# Altium schematic symbol library kmilo17pet-TI_StepDown.SchLib: 565 symbols (part 13 of 33)
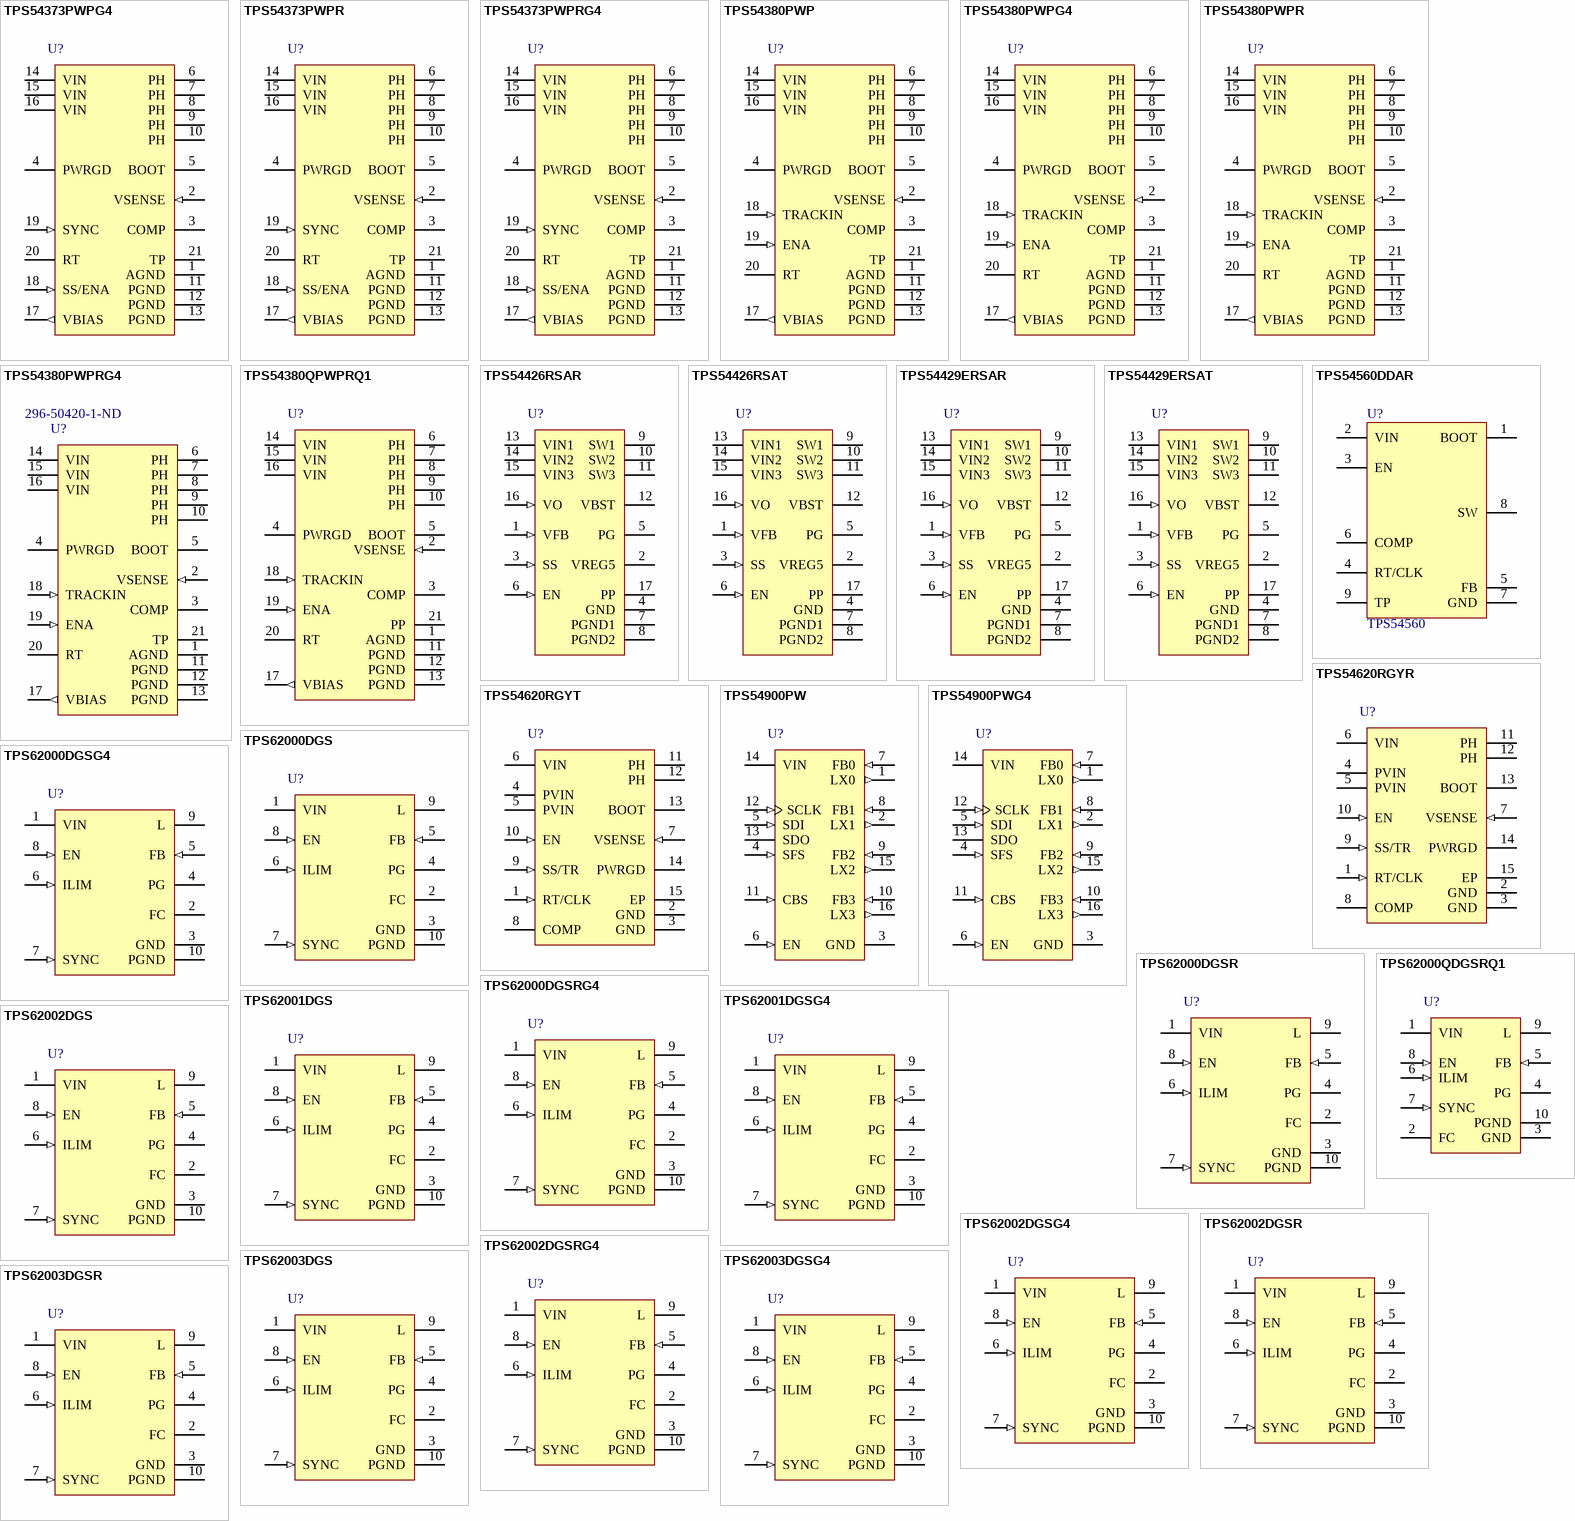
[diagram p31: symbols TPS54373PWPG4 to TPS62003DGSR]

## TPS62003DGSG4
designator U?
Buck Step-Down Regulator with 2 V to 5.5 V Input and 1.2 V Output, -40 to 85 degC, 10-Pin MSOP (DGS), Green (RoHS & no Sb/Br); Manufacturer: Texas Instruments; PartNumber: TPS62003DGSG4; Duty Cycle(Max)(%): 100; Iout(Max)(A): 0.6; Iq(Typ)(mA): 0.05; Preset Vout(V): 1.2; Rating: Catalog; Regulated Outputs(#): 1; Switch Current Limit(Typ)(A): 1.6; Synchronous Rectification: TRUE; Vin(Max)(V): 5.5; Vin(Min)(V): 2; DatasheetVersion: SLVS294E; PackageVersion: revC, Feb-2004; PackageReference: DGS10; PackageDescription: 10-Pin Thin Shrink Small Outline Package 0.5 mm Pitch; Supplier 1: Digi-Key; Supplier Part Number 1: TPS62003DGSG4-ND; Eco-Plan: Green (RoHS & no Sb/Br); SubFamily: Step-Down Regulator; Topology: Buck; Vout(Max)(V): 1.2; Vout(Min)(V): 1.2; Mounting Technology: Surface Mount; Code_JEDEC: MO-187-BA; ComponentLink1Description: Datasheet; ComponentLink1URL: http://www.ti.com/general/docs/lit/getliterature.tsp?genericPartNumber=TPS62003&fileType=pdf; ComponentLink2Description: Package Specification; ComponentLink2URL: http://www.ti.com/litv/pdf/mpds373
footprint DGS10_N (TSSOP, 10-Leads, Body 3x3mm, Pitch 0.5mm, IPC Medium Density)
footprint DGS10_L (TSSOP, 10-Leads, Body 3x3mm, Pitch 0.5mm, IPC High Density)
footprint DGS10_M (TSSOP, 10-Leads, Body 3x3mm, Pitch 0.5mm, IPC Low Density)
pins: 1 VIN (power) "Supply voltage input", 2 FC "Supply bypass pin. A 0.1 µF coupling capacitor should be connected as close as possible to this pin for good high frequency input voltage supply filtering.", 3 GND (power) "Ground", 4 PG (hiz) "Power good comparator output. This is an open-drain output. A pullup resistor should be connected between PG and VO. The output goes active high when the output voltage is greater than 92% of the nominal value.", 5 FB (in) "Feedback pin for the fixed output voltage option. For the adjustable version an external resistive divider is connected to FB. The internal voltage divider is disabled for the adjustable version.", 6 ILIM (in) "Switch current limit. Connect ILIM to GND to set the switch current limit to typically 600 mA, or connect this pin to VIN to set the current limit to typically 1200 mA.", 7 SYNC (in) "Input for synchronization to external clock signal. Synchronizes the converter switching frequency to an external clock signal with CMOS level:SYNC = HIGH: Low-noise mode enabled, fixed frequency PWM operation is forced SYNC (See Datasheet)", 8 EN (in) "Enable. A logic high enables the converter, logic low forces the device into shutdown mode reducing the supply current to less than 1 uA.", 9 L (power) "Connect the inductor to this pin. L is the switch pin connected to the drain of the internal power MOSFETS", 10 PGND (power) "Power ground. Connect all power grounds to PGND."

## TPS62003DGSR
designator U?
Buck Step-Down Regulator with 2 V to 5.5 V Input and 1.2 V Output, -40 to 85 degC, 10-Pin MSOP (DGS), Green (RoHS & no Sb/Br); Manufacturer: Texas Instruments; PartNumber: TPS62003DGSR; Duty Cycle(Max)(%): 100; Iout(Max)(A): 0.6; Iq(Typ)(mA): 0.05; Preset Vout(V): 1.2; Rating: Catalog; Regulated Outputs(#): 1; Switch Current Limit(Typ)(A): 1.6; Synchronous Rectification: TRUE; Vin(Max)(V): 5.5; Vin(Min)(V): 2; DatasheetVersion: SLVS294E; PackageVersion: revC, Feb-2004; PackageReference: DGS10; PackageDescription: 10-Pin Thin Shrink Small Outline Package 0.5 mm Pitch; Supplier 1: Digi-Key; Supplier Part Number 1: 296-11614-2-ND; Eco-Plan: Green (RoHS & no Sb/Br); SubFamily: Step-Down Regulator; Topology: Buck; Vout(Max)(V): 1.2; Vout(Min)(V): 1.2; Mounting Technology: Surface Mount; Code_JEDEC: MO-187-BA; ComponentLink1Description: Datasheet; ComponentLink1URL: http://www.ti.com/general/docs/lit/getliterature.tsp?genericPartNumber=TPS62003&fileType=pdf; ComponentLink2Description: Package Specification; ComponentLink2URL: http://www.ti.com/litv/pdf/mpds373
footprint DGS10_N (TSSOP, 10-Leads, Body 3x3mm, Pitch 0.5mm, IPC Medium Density)
footprint DGS10_L (TSSOP, 10-Leads, Body 3x3mm, Pitch 0.5mm, IPC High Density)
footprint DGS10_M (TSSOP, 10-Leads, Body 3x3mm, Pitch 0.5mm, IPC Low Density)
pins: 1 VIN (power) "Supply voltage input", 2 FC "Supply bypass pin. A 0.1 µF coupling capacitor should be connected as close as possible to this pin for good high frequency input voltage supply filtering.", 3 GND (power) "Ground", 4 PG (hiz) "Power good comparator output. This is an open-drain output. A pullup resistor should be connected between PG and VO. The output goes active high when the output voltage is greater than 92% of the nominal value.", 5 FB (in) "Feedback pin for the fixed output voltage option. For the adjustable version an external resistive divider is connected to FB. The internal voltage divider is disabled for the adjustable version.", 6 ILIM (in) "Switch current limit. Connect ILIM to GND to set the switch current limit to typically 600 mA, or connect this pin to VIN to set the current limit to typically 1200 mA.", 7 SYNC (in) "Input for synchronization to external clock signal. Synchronizes the converter switching frequency to an external clock signal with CMOS level:SYNC = HIGH: Low-noise mode enabled, fixed frequency PWM operation is forced SYNC (See Datasheet)", 8 EN (in) "Enable. A logic high enables the converter, logic low forces the device into shutdown mode reducing the supply current to less than 1 uA.", 9 L (power) "Connect the inductor to this pin. L is the switch pin connected to the drain of the internal power MOSFETS", 10 PGND (power) "Power ground. Connect all power grounds to PGND."

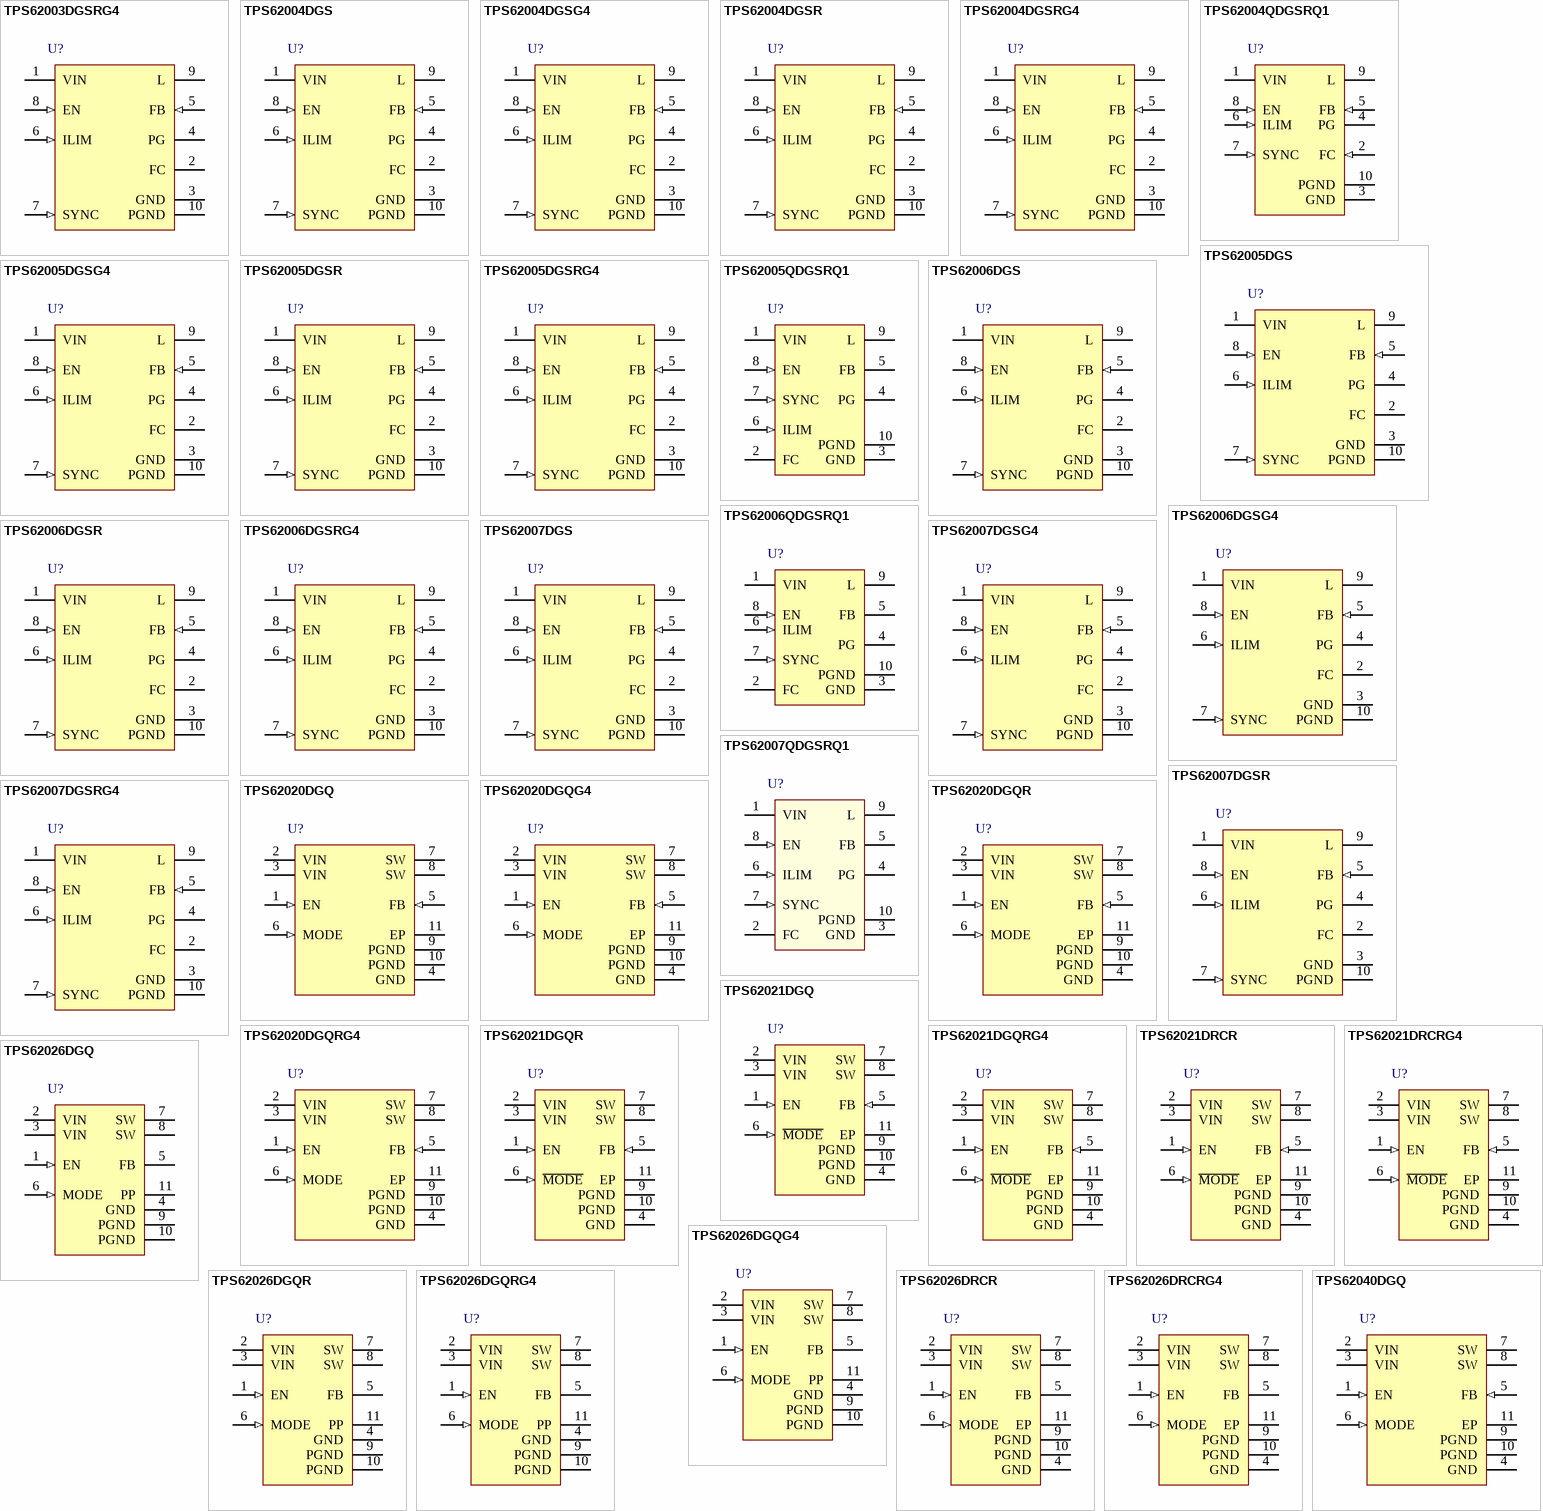
[diagram p7: symbols TPS62003DGSRG4 to TPS62040DGQ]

## TPS62003DGSRG4
designator U?
Buck Step-Down Regulator with 2 V to 5.5 V Input and 1.2 V Output, -40 to 85 degC, 10-Pin MSOP (DGS), Green (RoHS & no Sb/Br); Manufacturer: Texas Instruments; PartNumber: TPS62003DGSRG4; Duty Cycle(Max)(%): 100; Iout(Max)(A): 0.6; Iq(Typ)(mA): 0.05; Preset Vout(V): 1.2; Rating: Catalog; Regulated Outputs(#): 1; Switch Current Limit(Typ)(A): 1.6; Synchronous Rectification: TRUE; Vin(Max)(V): 5.5; Vin(Min)(V): 2; DatasheetVersion: SLVS294E; PackageVersion: revC, Feb-2004; PackageReference: DGS10; PackageDescription: 10-Pin Thin Shrink Small Outline Package 0.5 mm Pitch; Supplier 1: Digi-Key; Supplier Part Number 1: TPS62003DGSRG4-ND; Eco-Plan: Green (RoHS & no Sb/Br); SubFamily: Step-Down Regulator; Topology: Buck; Vout(Max)(V): 1.2; Vout(Min)(V): 1.2; Mounting Technology: Surface Mount; Code_JEDEC: MO-187-BA; ComponentLink1Description: Datasheet; ComponentLink1URL: http://www.ti.com/general/docs/lit/getliterature.tsp?genericPartNumber=TPS62003&fileType=pdf; ComponentLink2Description: Package Specification; ComponentLink2URL: http://www.ti.com/litv/pdf/mpds373
footprint DGS10_N (TSSOP, 10-Leads, Body 3x3mm, Pitch 0.5mm, IPC Medium Density)
footprint DGS10_L (TSSOP, 10-Leads, Body 3x3mm, Pitch 0.5mm, IPC High Density)
footprint DGS10_M (TSSOP, 10-Leads, Body 3x3mm, Pitch 0.5mm, IPC Low Density)
pins: 1 VIN (power) "Supply voltage input", 2 FC "Supply bypass pin. A 0.1 µF coupling capacitor should be connected as close as possible to this pin for good high frequency input voltage supply filtering.", 3 GND (power) "Ground", 4 PG (hiz) "Power good comparator output. This is an open-drain output. A pullup resistor should be connected between PG and VO. The output goes active high when the output voltage is greater than 92% of the nominal value.", 5 FB (in) "Feedback pin for the fixed output voltage option. For the adjustable version an external resistive divider is connected to FB. The internal voltage divider is disabled for the adjustable version.", 6 ILIM (in) "Switch current limit. Connect ILIM to GND to set the switch current limit to typically 600 mA, or connect this pin to VIN to set the current limit to typically 1200 mA.", 7 SYNC (in) "Input for synchronization to external clock signal. Synchronizes the converter switching frequency to an external clock signal with CMOS level:SYNC = HIGH: Low-noise mode enabled, fixed frequency PWM operation is forced SYNC (See Datasheet)", 8 EN (in) "Enable. A logic high enables the converter, logic low forces the device into shutdown mode reducing the supply current to less than 1 uA.", 9 L (power) "Connect the inductor to this pin. L is the switch pin connected to the drain of the internal power MOSFETS", 10 PGND (power) "Power ground. Connect all power grounds to PGND."

## TPS62004DGS
designator U?
Buck Step-Down Regulator with 2 V to 5.5 V Input and 1.5 V Output, -40 to 85 degC, 10-Pin MSOP (DGS), Green (RoHS & no Sb/Br); Manufacturer: Texas Instruments; PartNumber: TPS62004DGS; Duty Cycle(Max)(%): 100; Iout(Max)(A): 0.6; Iq(Typ)(mA): 0.05; Preset Vout(V): 1.5; Rating: Catalog; Regulated Outputs(#): 1; Switch Current Limit(Typ)(A): 1.6; Synchronous Rectification: TRUE; Vin(Max)(V): 5.5; Vin(Min)(V): 2; DatasheetVersion: SLVS294E; PackageVersion: revC, Feb-2004; PackageReference: DGS10; PackageDescription: 10-Pin Thin Shrink Small Outline Package 0.5 mm Pitch; Supplier 1: Digi-Key; Supplier Part Number 1: 296-34631-5-ND; Eco-Plan: Green (RoHS & no Sb/Br); SubFamily: Step-Down Regulator; Topology: Buck; Vout(Max)(V): 1.5; Vout(Min)(V): 1.5; Mounting Technology: Surface Mount; Code_JEDEC: MO-187-BA; ComponentLink1Description: Datasheet; ComponentLink1URL: http://www.ti.com/general/docs/lit/getliterature.tsp?genericPartNumber=TPS62004&fileType=pdf; ComponentLink2Description: Package Specification; ComponentLink2URL: http://www.ti.com/litv/pdf/mpds373
footprint DGS10_N (TSSOP, 10-Leads, Body 3x3mm, Pitch 0.5mm, IPC Medium Density)
footprint DGS10_L (TSSOP, 10-Leads, Body 3x3mm, Pitch 0.5mm, IPC High Density)
footprint DGS10_M (TSSOP, 10-Leads, Body 3x3mm, Pitch 0.5mm, IPC Low Density)
pins: 1 VIN (power) "Supply voltage input", 2 FC "Supply bypass pin. A 0.1 µF coupling capacitor should be connected as close as possible to this pin for good high frequency input voltage supply filtering.", 3 GND (power) "Ground", 4 PG (hiz) "Power good comparator output. This is an open-drain output. A pullup resistor should be connected between PG and VO. The output goes active high when the output voltage is greater than 92% of the nominal value.", 5 FB (in) "Feedback pin for the fixed output voltage option. For the adjustable version an external resistive divider is connected to FB. The internal voltage divider is disabled for the adjustable version.", 6 ILIM (in) "Switch current limit. Connect ILIM to GND to set the switch current limit to typically 600 mA, or connect this pin to VIN to set the current limit to typically 1200 mA.", 7 SYNC (in) "Input for synchronization to external clock signal. Synchronizes the converter switching frequency to an external clock signal with CMOS level:SYNC = HIGH: Low-noise mode enabled, fixed frequency PWM operation is forced SYNC (See Datasheet)", 8 EN (in) "Enable. A logic high enables the converter, logic low forces the device into shutdown mode reducing the supply current to less than 1 uA.", 9 L (power) "Connect the inductor to this pin. L is the switch pin connected to the drain of the internal power MOSFETS", 10 PGND (power) "Power ground. Connect all power grounds to PGND."

## TPS62004DGSG4
designator U?
Buck Step-Down Regulator with 2 V to 5.5 V Input and 1.5 V Output, -40 to 85 degC, 10-Pin MSOP (DGS), Green (RoHS & no Sb/Br); Manufacturer: Texas Instruments; PartNumber: TPS62004DGSG4; Duty Cycle(Max)(%): 100; Iout(Max)(A): 0.6; Iq(Typ)(mA): 0.05; Preset Vout(V): 1.5; Rating: Catalog; Regulated Outputs(#): 1; Switch Current Limit(Typ)(A): 1.6; Synchronous Rectification: TRUE; Vin(Max)(V): 5.5; Vin(Min)(V): 2; DatasheetVersion: SLVS294E; PackageVersion: revC, Feb-2004; PackageReference: DGS10; PackageDescription: 10-Pin Thin Shrink Small Outline Package 0.5 mm Pitch; Supplier 1: Digi-Key; Supplier Part Number 1: TPS62004DGSG4-ND; Eco-Plan: Green (RoHS & no Sb/Br); SubFamily: Step-Down Regulator; Topology: Buck; Vout(Max)(V): 1.5; Vout(Min)(V): 1.5; Mounting Technology: Surface Mount; Code_JEDEC: MO-187-BA; ComponentLink1Description: Datasheet; ComponentLink1URL: http://www.ti.com/general/docs/lit/getliterature.tsp?genericPartNumber=TPS62004&fileType=pdf; ComponentLink2Description: Package Specification; ComponentLink2URL: http://www.ti.com/litv/pdf/mpds373
footprint DGS10_N (TSSOP, 10-Leads, Body 3x3mm, Pitch 0.5mm, IPC Medium Density)
footprint DGS10_L (TSSOP, 10-Leads, Body 3x3mm, Pitch 0.5mm, IPC High Density)
footprint DGS10_M (TSSOP, 10-Leads, Body 3x3mm, Pitch 0.5mm, IPC Low Density)
pins: 1 VIN (power) "Supply voltage input", 2 FC "Supply bypass pin. A 0.1 µF coupling capacitor should be connected as close as possible to this pin for good high frequency input voltage supply filtering.", 3 GND (power) "Ground", 4 PG (hiz) "Power good comparator output. This is an open-drain output. A pullup resistor should be connected between PG and VO. The output goes active high when the output voltage is greater than 92% of the nominal value.", 5 FB (in) "Feedback pin for the fixed output voltage option. For the adjustable version an external resistive divider is connected to FB. The internal voltage divider is disabled for the adjustable version.", 6 ILIM (in) "Switch current limit. Connect ILIM to GND to set the switch current limit to typically 600 mA, or connect this pin to VIN to set the current limit to typically 1200 mA.", 7 SYNC (in) "Input for synchronization to external clock signal. Synchronizes the converter switching frequency to an external clock signal with CMOS level:SYNC = HIGH: Low-noise mode enabled, fixed frequency PWM operation is forced SYNC (See Datasheet)", 8 EN (in) "Enable. A logic high enables the converter, logic low forces the device into shutdown mode reducing the supply current to less than 1 uA.", 9 L (power) "Connect the inductor to this pin. L is the switch pin connected to the drain of the internal power MOSFETS", 10 PGND (power) "Power ground. Connect all power grounds to PGND."

## TPS62004DGSR
designator U?
Buck Step-Down Regulator with 2 V to 5.5 V Input and 1.5 V Output, -40 to 85 degC, 10-Pin MSOP (DGS), Green (RoHS & no Sb/Br); Manufacturer: Texas Instruments; PartNumber: TPS62004DGSR; Duty Cycle(Max)(%): 100; Iout(Max)(A): 0.6; Iq(Typ)(mA): 0.05; Preset Vout(V): 1.5; Rating: Catalog; Regulated Outputs(#): 1; Switch Current Limit(Typ)(A): 1.6; Synchronous Rectification: TRUE; Vin(Max)(V): 5.5; Vin(Min)(V): 2; DatasheetVersion: SLVS294E; PackageVersion: revC, Feb-2004; PackageReference: DGS10; PackageDescription: 10-Pin Thin Shrink Small Outline Package 0.5 mm Pitch; Supplier 1: Digi-Key; Supplier Part Number 1: 296-11615-2-ND; Eco-Plan: Green (RoHS & no Sb/Br); SubFamily: Step-Down Regulator; Topology: Buck; Vout(Max)(V): 1.5; Vout(Min)(V): 1.5; Mounting Technology: Surface Mount; Code_JEDEC: MO-187-BA; ComponentLink1Description: Datasheet; ComponentLink1URL: http://www.ti.com/general/docs/lit/getliterature.tsp?genericPartNumber=TPS62004&fileType=pdf; ComponentLink2Description: Package Specification; ComponentLink2URL: http://www.ti.com/litv/pdf/mpds373
footprint DGS10_N (TSSOP, 10-Leads, Body 3x3mm, Pitch 0.5mm, IPC Medium Density)
footprint DGS10_L (TSSOP, 10-Leads, Body 3x3mm, Pitch 0.5mm, IPC High Density)
footprint DGS10_M (TSSOP, 10-Leads, Body 3x3mm, Pitch 0.5mm, IPC Low Density)
pins: 1 VIN (power) "Supply voltage input", 2 FC "Supply bypass pin. A 0.1 µF coupling capacitor should be connected as close as possible to this pin for good high frequency input voltage supply filtering.", 3 GND (power) "Ground", 4 PG (hiz) "Power good comparator output. This is an open-drain output. A pullup resistor should be connected between PG and VO. The output goes active high when the output voltage is greater than 92% of the nominal value.", 5 FB (in) "Feedback pin for the fixed output voltage option. For the adjustable version an external resistive divider is connected to FB. The internal voltage divider is disabled for the adjustable version.", 6 ILIM (in) "Switch current limit. Connect ILIM to GND to set the switch current limit to typically 600 mA, or connect this pin to VIN to set the current limit to typically 1200 mA.", 7 SYNC (in) "Input for synchronization to external clock signal. Synchronizes the converter switching frequency to an external clock signal with CMOS level:SYNC = HIGH: Low-noise mode enabled, fixed frequency PWM operation is forced SYNC (See Datasheet)", 8 EN (in) "Enable. A logic high enables the converter, logic low forces the device into shutdown mode reducing the supply current to less than 1 uA.", 9 L (power) "Connect the inductor to this pin. L is the switch pin connected to the drain of the internal power MOSFETS", 10 PGND (power) "Power ground. Connect all power grounds to PGND."

## TPS62004DGSRG4
designator U?
Buck Step-Down Regulator with 2 V to 5.5 V Input and 1.5 V Output, -40 to 85 degC, 10-Pin MSOP (DGS), Green (RoHS & no Sb/Br); Manufacturer: Texas Instruments; PartNumber: TPS62004DGSRG4; Duty Cycle(Max)(%): 100; Iout(Max)(A): 0.6; Iq(Typ)(mA): 0.05; Preset Vout(V): 1.5; Rating: Catalog; Regulated Outputs(#): 1; Switch Current Limit(Typ)(A): 1.6; Synchronous Rectification: TRUE; Vin(Max)(V): 5.5; Vin(Min)(V): 2; DatasheetVersion: SLVS294E; PackageVersion: revC, Feb-2004; PackageReference: DGS10; PackageDescription: 10-Pin Thin Shrink Small Outline Package 0.5 mm Pitch; Supplier 1: Digi-Key; Supplier Part Number 1: TPS62004DGSRG4-ND; Eco-Plan: Green (RoHS & no Sb/Br); SubFamily: Step-Down Regulator; Topology: Buck; Vout(Max)(V): 1.5; Vout(Min)(V): 1.5; Mounting Technology: Surface Mount; Code_JEDEC: MO-187-BA; ComponentLink1Description: Datasheet; ComponentLink1URL: http://www.ti.com/general/docs/lit/getliterature.tsp?genericPartNumber=TPS62004&fileType=pdf; ComponentLink2Description: Package Specification; ComponentLink2URL: http://www.ti.com/litv/pdf/mpds373
footprint DGS10_N (TSSOP, 10-Leads, Body 3x3mm, Pitch 0.5mm, IPC Medium Density)
footprint DGS10_L (TSSOP, 10-Leads, Body 3x3mm, Pitch 0.5mm, IPC High Density)
footprint DGS10_M (TSSOP, 10-Leads, Body 3x3mm, Pitch 0.5mm, IPC Low Density)
pins: 1 VIN (power) "Supply voltage input", 2 FC "Supply bypass pin. A 0.1 µF coupling capacitor should be connected as close as possible to this pin for good high frequency input voltage supply filtering.", 3 GND (power) "Ground", 4 PG (hiz) "Power good comparator output. This is an open-drain output. A pullup resistor should be connected between PG and VO. The output goes active high when the output voltage is greater than 92% of the nominal value.", 5 FB (in) "Feedback pin for the fixed output voltage option. For the adjustable version an external resistive divider is connected to FB. The internal voltage divider is disabled for the adjustable version.", 6 ILIM (in) "Switch current limit. Connect ILIM to GND to set the switch current limit to typically 600 mA, or connect this pin to VIN to set the current limit to typically 1200 mA.", 7 SYNC (in) "Input for synchronization to external clock signal. Synchronizes the converter switching frequency to an external clock signal with CMOS level:SYNC = HIGH: Low-noise mode enabled, fixed frequency PWM operation is forced SYNC (See Datasheet)", 8 EN (in) "Enable. A logic high enables the converter, logic low forces the device into shutdown mode reducing the supply current to less than 1 uA.", 9 L (power) "Connect the inductor to this pin. L is the switch pin connected to the drain of the internal power MOSFETS", 10 PGND (power) "Power ground. Connect all power grounds to PGND."

## TPS62004QDGSRQ1
designator U?
Buck Step Down Regulator with 2 to 5.5 V Input and 1.5 V Output, -40 to 125 degC, 10-Pin MSOP (DGS), Green (RoHS & no Sb/Br); Manufacturer: Texas Instruments; PartNumber: TPS62004QDGSRQ1; Duty Cycle(Max)(%): 100; Iout(Max)(A): 0.6; Iq(Typ)(mA): 0.05; Preset Vout(V): 1.5; Rating: Automotive; Regulated Outputs(#): 1; SubFamily: Step-Down Regulator; Switch Current Limit(Typ)(A): 1.6; Synchronous Rectification: TRUE; Vin(Max)(V): 5.5; Vin(Min)(V): 2; DatasheetVersion: SGLS243A; PackageVersion: revC, Feb-2004; PackageReference: DGS10; PackageDescription: 10-Pin Thin Shrink Small Outline Package 0.5 mm Pitch; Supplier 1: Digi-Key; Supplier Part Number 1: 296-29740-2-ND; Eco-Plan: Green (RoHS & no Sb/Br); Topology: Buck; Vout(Max)(V): 1.5; Vout(Min)(V): 1.5; Mounting Technology: Surface Mount; Code_JEDEC: MO-187-BA; ComponentLink1Description: Datasheet; ComponentLink1URL: http://www.ti.com/general/docs/lit/getliterature.tsp?genericPartNumber=TPS62004-Q1&fileType=pdf; ComponentLink2Description: Package Specification; ComponentLink2URL: http://www.ti.com/litv/pdf/mpds373; ComponentLink3Description: URL Link1; ComponentLink3URL: Samples URL:http://www.ti.com/product/tps54611#samples
footprint DGS10_N (TSSOP, 10-Leads, Body 3x3mm, Pitch 0.5mm, IPC Medium Density)
footprint DGS10_L (TSSOP, 10-Leads, Body 3x3mm, Pitch 0.5mm, IPC High Density)
footprint DGS10_M (TSSOP, 10-Leads, Body 3x3mm, Pitch 0.5mm, IPC Low Density)
pins: 1 VIN (power) "Supply voltage input", 2 FC (in) "Supply bypass pin. A 0.1-uF coupling capacitor should be connected as close as possible to this pin for good high frequency input voltage supply filtering.", 3 GND (power) "Ground", 4 PG (hiz) "Power good comparator output. This is an open-drain output. A pullup resistor should be connected between PG and VO. The output goes active high when the output voltage is greater than 92% of the nominal value.", 5 FB (in) "Feedback pin for the fixed output voltage option. For the adjustable version, an external resistive divider is connected to FB. The internal voltage divider is disabled for the adjustable version.", 6 ILIM (in) "Switch current limit. Connect ILIM to GND to set the switch current limit to typically 600 mA, or connect this pin to VIN to set the current limit to typically 1200 mA.", 7 SYNC (in) "Input for synchronization to external clock signal. Synchronizes the converter switching frequency to an external clock signal with CMOS level:SYNC = High: Low-noise mode enabled, fixed frequency PWM operation is forced;SYNC (See Datasheet)", 8 EN (in) "Enable. A logic high enables the converter and a logic low forces the device into shutdown mode reducing the supply current to less than 1 uA.", 9 L (power) "Connect the inductor to this pin. L is the switch pin connected to the drain of the internal power MOSFETS.", 10 PGND (power) "Power ground. Connect all power grounds to PGND."

## TPS62005DGS
designator U?
Buck Step-Down Regulator with 2 V to 5.5 V Input and 1.8 V Output, -40 to 85 degC, 10-Pin MSOP (DGS), Green (RoHS & no Sb/Br); Manufacturer: Texas Instruments; PartNumber: TPS62005DGS; Duty Cycle(Max)(%): 100; Iout(Max)(A): 0.6; Iq(Typ)(mA): 0.05; Preset Vout(V): 1.8; Rating: Catalog; Regulated Outputs(#): 1; Switch Current Limit(Typ)(A): 1.6; Synchronous Rectification: TRUE; Vin(Max)(V): 5.5; Vin(Min)(V): 2; DatasheetVersion: SLVS294E; PackageVersion: revC, Feb-2004; PackageReference: DGS10; PackageDescription: 10-Pin Thin Shrink Small Outline Package 0.5 mm Pitch; Supplier 1: Digi-Key; Supplier Part Number 1: 296-27020-5-ND; Eco-Plan: Green (RoHS & no Sb/Br); SubFamily: Step-Down Regulator; Topology: Buck; Vout(Max)(V): 1.8; Vout(Min)(V): 1.8; Mounting Technology: Surface Mount; Code_JEDEC: MO-187-BA; ComponentLink1Description: Datasheet; ComponentLink1URL: http://www.ti.com/general/docs/lit/getliterature.tsp?genericPartNumber=TPS62005&fileType=pdf; ComponentLink2Description: Package Specification; ComponentLink2URL: http://www.ti.com/litv/pdf/mpds373
footprint DGS10_N (TSSOP, 10-Leads, Body 3x3mm, Pitch 0.5mm, IPC Medium Density)
footprint DGS10_L (TSSOP, 10-Leads, Body 3x3mm, Pitch 0.5mm, IPC High Density)
footprint DGS10_M (TSSOP, 10-Leads, Body 3x3mm, Pitch 0.5mm, IPC Low Density)
pins: 1 VIN (power) "Supply voltage input", 2 FC "Supply bypass pin. A 0.1 µF coupling capacitor should be connected as close as possible to this pin for good high frequency input voltage supply filtering.", 3 GND (power) "Ground", 4 PG (hiz) "Power good comparator output. This is an open-drain output. A pullup resistor should be connected between PG and VO. The output goes active high when the output voltage is greater than 92% of the nominal value.", 5 FB (in) "Feedback pin for the fixed output voltage option. For the adjustable version an external resistive divider is connected to FB. The internal voltage divider is disabled for the adjustable version.", 6 ILIM (in) "Switch current limit. Connect ILIM to GND to set the switch current limit to typically 600 mA, or connect this pin to VIN to set the current limit to typically 1200 mA.", 7 SYNC (in) "Input for synchronization to external clock signal. Synchronizes the converter switching frequency to an external clock signal with CMOS level:SYNC = HIGH: Low-noise mode enabled, fixed frequency PWM operation is forced SYNC (See Datasheet)", 8 EN (in) "Enable. A logic high enables the converter, logic low forces the device into shutdown mode reducing the supply current to less than 1 uA.", 9 L (power) "Connect the inductor to this pin. L is the switch pin connected to the drain of the internal power MOSFETS.", 10 PGND (power) "Power ground. Connect all power grounds to PGND."

## TPS62005DGSG4
designator U?
Buck Step-Down Regulator with 2 V to 5.5 V Input and 1.8 V Output, -40 to 85 degC, 10-Pin MSOP (DGS), Green (RoHS & no Sb/Br); Manufacturer: Texas Instruments; PartNumber: TPS62005DGSG4; Duty Cycle(Max)(%): 100; Iout(Max)(A): 0.6; Iq(Typ)(mA): 0.05; Preset Vout(V): 1.8; Rating: Catalog; Regulated Outputs(#): 1; Switch Current Limit(Typ)(A): 1.6; Synchronous Rectification: TRUE; Vin(Max)(V): 5.5; Vin(Min)(V): 2; DatasheetVersion: SLVS294E; PackageVersion: revC, Feb-2004; PackageReference: DGS10; PackageDescription: 10-Pin Thin Shrink Small Outline Package 0.5 mm Pitch; Supplier 1: Digi-Key; Supplier Part Number 1: TPS62005DGSG4-ND; Eco-Plan: Green (RoHS & no Sb/Br); SubFamily: Step-Down Regulator; Topology: Buck; Vout(Max)(V): 1.8; Vout(Min)(V): 1.8; Mounting Technology: Surface Mount; Code_JEDEC: MO-187-BA; ComponentLink1Description: Datasheet; ComponentLink1URL: http://www.ti.com/general/docs/lit/getliterature.tsp?genericPartNumber=TPS62005&fileType=pdf; ComponentLink2Description: Package Specification; ComponentLink2URL: http://www.ti.com/litv/pdf/mpds373
footprint DGS10_N (TSSOP, 10-Leads, Body 3x3mm, Pitch 0.5mm, IPC Medium Density)
footprint DGS10_L (TSSOP, 10-Leads, Body 3x3mm, Pitch 0.5mm, IPC High Density)
footprint DGS10_M (TSSOP, 10-Leads, Body 3x3mm, Pitch 0.5mm, IPC Low Density)
pins: 1 VIN (power) "Supply voltage input", 2 FC "Supply bypass pin. A 0.1 µF coupling capacitor should be connected as close as possible to this pin for good high frequency input voltage supply filtering.", 3 GND (power) "Ground", 4 PG (hiz) "Power good comparator output. This is an open-drain output. A pullup resistor should be connected between PG and VO. The output goes active high when the output voltage is greater than 92% of the nominal value.", 5 FB (in) "Feedback pin for the fixed output voltage option. For the adjustable version an external resistive divider is connected to FB. The internal voltage divider is disabled for the adjustable version.", 6 ILIM (in) "Switch current limit. Connect ILIM to GND to set the switch current limit to typically 600 mA, or connect this pin to VIN to set the current limit to typically 1200 mA.", 7 SYNC (in) "Input for synchronization to external clock signal. Synchronizes the converter switching frequency to an external clock signal with CMOS level:SYNC = HIGH: Low-noise mode enabled, fixed frequency PWM operation is forced SYNC (See Datasheet)", 8 EN (in) "Enable. A logic high enables the converter, logic low forces the device into shutdown mode reducing the supply current to less than 1 uA.", 9 L (power) "Connect the inductor to this pin. L is the switch pin connected to the drain of the internal power MOSFETS.", 10 PGND (power) "Power ground. Connect all power grounds to PGND."

## TPS62005DGSR
designator U?
Buck Step-Down Regulator with 2 V to 5.5 V Input and 1.8 V Output, -40 to 85 degC, 10-Pin MSOP (DGS), Green (RoHS & no Sb/Br); Manufacturer: Texas Instruments; PartNumber: TPS62005DGSR; Duty Cycle(Max)(%): 100; Iout(Max)(A): 0.6; Iq(Typ)(mA): 0.05; Preset Vout(V): 1.8; Rating: Catalog; Regulated Outputs(#): 1; Switch Current Limit(Typ)(A): 1.6; Synchronous Rectification: TRUE; Vin(Max)(V): 5.5; Vin(Min)(V): 2; DatasheetVersion: SLVS294E; PackageVersion: revC, Feb-2004; PackageReference: DGS10; PackageDescription: 10-Pin Thin Shrink Small Outline Package 0.5 mm Pitch; Supplier 1: Digi-Key; Supplier Part Number 1: 296-11616-2-ND; Eco-Plan: Green (RoHS & no Sb/Br); SubFamily: Step-Down Regulator; Topology: Buck; Vout(Max)(V): 1.8; Vout(Min)(V): 1.8; Mounting Technology: Surface Mount; Code_JEDEC: MO-187-BA; ComponentLink1Description: Datasheet; ComponentLink1URL: http://www.ti.com/general/docs/lit/getliterature.tsp?genericPartNumber=TPS62005&fileType=pdf; ComponentLink2Description: Package Specification; ComponentLink2URL: http://www.ti.com/litv/pdf/mpds373
footprint DGS10_N (TSSOP, 10-Leads, Body 3x3mm, Pitch 0.5mm, IPC Medium Density)
footprint DGS10_L (TSSOP, 10-Leads, Body 3x3mm, Pitch 0.5mm, IPC High Density)
footprint DGS10_M (TSSOP, 10-Leads, Body 3x3mm, Pitch 0.5mm, IPC Low Density)
pins: 1 VIN (power) "Supply voltage input", 2 FC "Supply bypass pin. A 0.1 µF coupling capacitor should be connected as close as possible to this pin for good high frequency input voltage supply filtering.", 3 GND (power) "Ground", 4 PG (hiz) "Power good comparator output. This is an open-drain output. A pullup resistor should be connected between PG and VO. The output goes active high when the output voltage is greater than 92% of the nominal value.", 5 FB (in) "Feedback pin for the fixed output voltage option. For the adjustable version an external resistive divider is connected to FB. The internal voltage divider is disabled for the adjustable version.", 6 ILIM (in) "Switch current limit. Connect ILIM to GND to set the switch current limit to typically 600 mA, or connect this pin to VIN to set the current limit to typically 1200 mA.", 7 SYNC (in) "Input for synchronization to external clock signal. Synchronizes the converter switching frequency to an external clock signal with CMOS level:SYNC = HIGH: Low-noise mode enabled, fixed frequency PWM operation is forced SYNC (See Datasheet)", 8 EN (in) "Enable. A logic high enables the converter, logic low forces the device into shutdown mode reducing the supply current to less than 1 uA.", 9 L (power) "Connect the inductor to this pin. L is the switch pin connected to the drain of the internal power MOSFETS.", 10 PGND (power) "Power ground. Connect all power grounds to PGND."

## TPS62005DGSRG4
designator U?
Buck Step-Down Regulator with 2 V to 5.5 V Input and 1.8 V Output, -40 to 85 degC, 10-Pin MSOP (DGS), Green (RoHS & no Sb/Br); Manufacturer: Texas Instruments; PartNumber: TPS62005DGSRG4; Duty Cycle(Max)(%): 100; Iout(Max)(A): 0.6; Iq(Typ)(mA): 0.05; Preset Vout(V): 1.8; Rating: Catalog; Regulated Outputs(#): 1; Switch Current Limit(Typ)(A): 1.6; Synchronous Rectification: TRUE; Vin(Max)(V): 5.5; Vin(Min)(V): 2; DatasheetVersion: SLVS294E; PackageVersion: revC, Feb-2004; PackageReference: DGS10; PackageDescription: 10-Pin Thin Shrink Small Outline Package 0.5 mm Pitch; Supplier 1: Digi-Key; Supplier Part Number 1: TPS62005DGSRG4-ND; Eco-Plan: Green (RoHS & no Sb/Br); SubFamily: Step-Down Regulator; Topology: Buck; Vout(Max)(V): 1.8; Vout(Min)(V): 1.8; Mounting Technology: Surface Mount; Code_JEDEC: MO-187-BA; ComponentLink1Description: Datasheet; ComponentLink1URL: http://www.ti.com/general/docs/lit/getliterature.tsp?genericPartNumber=TPS62005&fileType=pdf; ComponentLink2Description: Package Specification; ComponentLink2URL: http://www.ti.com/litv/pdf/mpds373
footprint DGS10_N (TSSOP, 10-Leads, Body 3x3mm, Pitch 0.5mm, IPC Medium Density)
footprint DGS10_L (TSSOP, 10-Leads, Body 3x3mm, Pitch 0.5mm, IPC High Density)
footprint DGS10_M (TSSOP, 10-Leads, Body 3x3mm, Pitch 0.5mm, IPC Low Density)
pins: 1 VIN (power) "Supply voltage input", 2 FC "Supply bypass pin. A 0.1 µF coupling capacitor should be connected as close as possible to this pin for good high frequency input voltage supply filtering.", 3 GND (power) "Ground", 4 PG (hiz) "Power good comparator output. This is an open-drain output. A pullup resistor should be connected between PG and VO. The output goes active high when the output voltage is greater than 92% of the nominal value.", 5 FB (in) "Feedback pin for the fixed output voltage option. For the adjustable version an external resistive divider is connected to FB. The internal voltage divider is disabled for the adjustable version.", 6 ILIM (in) "Switch current limit. Connect ILIM to GND to set the switch current limit to typically 600 mA, or connect this pin to VIN to set the current limit to typically 1200 mA.", 7 SYNC (in) "Input for synchronization to external clock signal. Synchronizes the converter switching frequency to an external clock signal with CMOS level:SYNC = HIGH: Low-noise mode enabled, fixed frequency PWM operation is forced SYNC (See Datasheet)", 8 EN (in) "Enable. A logic high enables the converter, logic low forces the device into shutdown mode reducing the supply current to less than 1 uA.", 9 L (power) "Connect the inductor to this pin. L is the switch pin connected to the drain of the internal power MOSFETS.", 10 PGND (power) "Power ground. Connect all power grounds to PGND."

## TPS62005QDGSRQ1
designator U?
Buck Step Down Regulator with 2 to 5.5 V Input and 1.8 V Output, -40 to 125 degC, 10-Pin MSOP (DGS), Green (RoHS & no Sb/Br); Manufacturer: Texas Instruments; PartNumber: TPS62005QDGSRQ1; Duty Cycle(Max)(%): 100; Iout(Max)(A): 0.6; Iq(Typ)(mA): 0.05; Preset Vout(V): 1.8; Rating: Automotive; Regulated Outputs(#): 1; SubFamily: Step-Down Regulator; Switch Current Limit(Typ)(A): 1.6; Synchronous Rectification: TRUE; Vin(Max)(V): 5.5; Vin(Min)(V): 2; DatasheetVersion: SGLS243A; PackageVersion: revC, Feb-2004; PackageReference: DGS10; PackageDescription: 10-Pin Thin Shrink Small Outline Package 0.5 mm Pitch; Supplier 1: Digi-Key; Supplier Part Number 1: 296-19427-2-ND; Eco-Plan: Green (RoHS & no Sb/Br); Topology: Buck; Vout(Max)(V): 1.8; Vout(Min)(V): 1.8; Mounting Technology: Surface Mount; Code_JEDEC: MO-187-BA; ComponentLink1Description: Datasheet; ComponentLink1URL: http://www.ti.com/general/docs/lit/getliterature.tsp?genericPartNumber=TPS62005-Q1&fileType=pdf; ComponentLink2Description: Package Specification; ComponentLink2URL: http://www.ti.com/litv/pdf/mpds373; ComponentLink3Description: URL Link1; ComponentLink3URL: Samples URL:http://www.ti.com/product/tps54611#samples
footprint DGS10_N (TSSOP, 10-Leads, Body 3x3mm, Pitch 0.5mm, IPC Medium Density)
footprint DGS10_L (TSSOP, 10-Leads, Body 3x3mm, Pitch 0.5mm, IPC High Density)
footprint DGS10_M (TSSOP, 10-Leads, Body 3x3mm, Pitch 0.5mm, IPC Low Density)
pins: 1 VIN (power) "Supply voltage input", 2 FC "Supply bypass pin. A 0.1-uF coupling capacitor should be connected as close as possible to this pin for good high frequency input voltage supply filtering.", 3 GND (power) "Ground", 4 PG (hiz) "Power good comparator output. This is an open-drain output. A pullup resistor should be connected between PG and VO. The output goes active high when the output voltage is greater than 92% of the nominal value.", 5 FB "Feedback pin for the fixed output voltage option. For the adjustable version, an external resistive divider is connected to FB. The internal voltage divider is disabled for the adjustable version.", 6 ILIM (in) "Switch current limit. Connect ILIM to GND to set the switch current limit to typically 600 mA, or connect this pin to VIN to set the current limit to typically 1200 mA.", 7 SYNC (in) "Input for synchronization to external clock signal. Synchronizes the converter switching frequency to an external clock signal with CMOS level:SYNC = High: Low-noise mode enabled, fixed frequency PWM operation is forced;SYNC (See Datasheet)", 8 EN (in) "Enable. A logic high enables the converter and a logic low forces the device into shutdown mode reducing the supply current to less than 1 uA.", 9 L (power) "Connect the inductor to this pin. L is the switch pin connected to the drain of the internal power MOSFETS.", 10 PGND (power) "Power ground. Connect all power grounds to PGND."

## TPS62006DGS
designator U?
Buck Step-Down Regulator with 2 V to 5.5 V Input and 2.5 V Output, -40 to 85 degC, 10-Pin MSOP (DGS), Green (RoHS & no Sb/Br); Manufacturer: Texas Instruments; PartNumber: TPS62006DGS; Duty Cycle(Max)(%): 100; Iout(Max)(A): 0.6; Iq(Typ)(mA): 0.05; Preset Vout(V): 2.5; Rating: Catalog; Regulated Outputs(#): 1; Switch Current Limit(Typ)(A): 1.6; Synchronous Rectification: TRUE; Vin(Max)(V): 5.5; Vin(Min)(V): 2; DatasheetVersion: SLVS294E; PackageVersion: revC, Feb-2004; PackageReference: DGS10; PackageDescription: 10-Pin Thin Shrink Small Outline Package 0.5 mm Pitch; Supplier 1: Digi-Key; Supplier Part Number 1: 296-27021-5-ND; Eco-Plan: Green (RoHS & no Sb/Br); SubFamily: Step-Down Regulator; Topology: Buck; Vout(Max)(V): 2.5; Vout(Min)(V): 2.5; Mounting Technology: Surface Mount; Code_JEDEC: MO-187-BA; ComponentLink1Description: Datasheet; ComponentLink1URL: http://www.ti.com/general/docs/lit/getliterature.tsp?genericPartNumber=TPS62006&fileType=pdf; ComponentLink2Description: Package Specification; ComponentLink2URL: http://www.ti.com/litv/pdf/mpds373
footprint DGS10_N (TSSOP, 10-Leads, Body 3x3mm, Pitch 0.5mm, IPC Medium Density)
footprint DGS10_L (TSSOP, 10-Leads, Body 3x3mm, Pitch 0.5mm, IPC High Density)
footprint DGS10_M (TSSOP, 10-Leads, Body 3x3mm, Pitch 0.5mm, IPC Low Density)
pins: 1 VIN (power) "Supply voltage input", 2 FC "Supply bypass pin. A 0.1 µF coupling capacitor should be connected as close as possible to this pin for good high frequency input voltage supply filtering.", 3 GND (power) "Ground", 4 PG (hiz) "Power good comparator output. This is an open-drain output. A pullup resistor should be connected between PG and VO. The output goes active high when the output voltage is greater than 92% of the nominal value.", 5 FB (in) "Feedback pin for the fixed output voltage option. For the adjustable version an external resistive divider is connected to FB. The internal voltage divider is disabled for the adjustable version.", 6 ILIM (in) "Switch current limit. Connect ILIM to GND to set the switch current limit to typically 600 mA, or connect this pin to VIN to set the current limit to typically 1200 mA.", 7 SYNC (in) "Input for synchronization to external clock signal. Synchronizes the converter switching frequency to an external clock signal with CMOS level:SYNC = HIGH: Low-noise mode enabled, fixed frequency PWM operation is forced SYNC (See Datasheet)", 8 EN (in) "Enable. A logic high enables the converter, logic low forces the device into shutdown mode reducing the supply current to less than 1 uA.", 9 L (power) "Connect the inductor to this pin. L is the switch pin connected to the drain of the internal power MOSFETS.", 10 PGND (power) "Power ground. Connect all power grounds to PGND."

## TPS62006DGSG4
designator U?
Buck Step-Down Regulator with 2 V to 5.5 V Input and 2.5 V Output, -40 to 85 degC, 10-Pin MSOP (DGS), Green (RoHS & no Sb/Br); Manufacturer: Texas Instruments; PartNumber: TPS62006DGSG4; Duty Cycle(Max)(%): 100; Iout(Max)(A): 0.6; Iq(Typ)(mA): 0.05; Preset Vout(V): 2.5; Rating: Catalog; Regulated Outputs(#): 1; Switch Current Limit(Typ)(A): 1.6; Synchronous Rectification: TRUE; Vin(Max)(V): 5.5; Vin(Min)(V): 2; DatasheetVersion: SLVS294E; PackageVersion: revC, Feb-2004; PackageReference: DGS10; PackageDescription: 10-Pin Thin Shrink Small Outline Package 0.5 mm Pitch; Supplier 1: Digi-Key; Supplier Part Number 1: TPS62006DGSG4-ND; Eco-Plan: Green (RoHS & no Sb/Br); SubFamily: Step-Down Regulator; Topology: Buck; Vout(Max)(V): 2.5; Vout(Min)(V): 2.5; Mounting Technology: Surface Mount; Code_JEDEC: MO-187-BA; ComponentLink1Description: Datasheet; ComponentLink1URL: http://www.ti.com/general/docs/lit/getliterature.tsp?genericPartNumber=TPS62006&fileType=pdf; ComponentLink2Description: Package Specification; ComponentLink2URL: http://www.ti.com/litv/pdf/mpds373
footprint DGS10_N (TSSOP, 10-Leads, Body 3x3mm, Pitch 0.5mm, IPC Medium Density)
footprint DGS10_L (TSSOP, 10-Leads, Body 3x3mm, Pitch 0.5mm, IPC High Density)
footprint DGS10_M (TSSOP, 10-Leads, Body 3x3mm, Pitch 0.5mm, IPC Low Density)
pins: 1 VIN (power) "Supply voltage input", 2 FC "Supply bypass pin. A 0.1 µF coupling capacitor should be connected as close as possible to this pin for good high frequency input voltage supply filtering.", 3 GND (power) "Ground", 4 PG (hiz) "Power good comparator output. This is an open-drain output. A pullup resistor should be connected between PG and VO. The output goes active high when the output voltage is greater than 92% of the nominal value.", 5 FB (in) "Feedback pin for the fixed output voltage option. For the adjustable version an external resistive divider is connected to FB. The internal voltage divider is disabled for the adjustable version.", 6 ILIM (in) "Switch current limit. Connect ILIM to GND to set the switch current limit to typically 600 mA, or connect this pin to VIN to set the current limit to typically 1200 mA.", 7 SYNC (in) "Input for synchronization to external clock signal. Synchronizes the converter switching frequency to an external clock signal with CMOS level:SYNC = HIGH: Low-noise mode enabled, fixed frequency PWM operation is forced SYNC (See Datasheet)", 8 EN (in) "Enable. A logic high enables the converter, logic low forces the device into shutdown mode reducing the supply current to less than 1 uA.", 9 L (power) "Connect the inductor to this pin. L is the switch pin connected to the drain of the internal power MOSFETS.", 10 PGND (power) "Power ground. Connect all power grounds to PGND."

## TPS62006DGSR
designator U?
Buck Step-Down Regulator with 2 V to 5.5 V Input and 2.5 V Output, -40 to 85 degC, 10-Pin MSOP (DGS), Green (RoHS & no Sb/Br); Manufacturer: Texas Instruments; PartNumber: TPS62006DGSR; Duty Cycle(Max)(%): 100; Iout(Max)(A): 0.6; Iq(Typ)(mA): 0.05; Preset Vout(V): 2.5; Rating: Catalog; Regulated Outputs(#): 1; Switch Current Limit(Typ)(A): 1.6; Synchronous Rectification: TRUE; Vin(Max)(V): 5.5; Vin(Min)(V): 2; DatasheetVersion: SLVS294E; PackageVersion: revC, Feb-2004; PackageReference: DGS10; PackageDescription: 10-Pin Thin Shrink Small Outline Package 0.5 mm Pitch; Supplier 1: Digi-Key; Supplier Part Number 1: 296-11617-2-ND; Eco-Plan: Green (RoHS & no Sb/Br); SubFamily: Step-Down Regulator; Topology: Buck; Vout(Max)(V): 2.5; Vout(Min)(V): 2.5; Mounting Technology: Surface Mount; Code_JEDEC: MO-187-BA; ComponentLink1Description: Datasheet; ComponentLink1URL: http://www.ti.com/general/docs/lit/getliterature.tsp?genericPartNumber=TPS62006&fileType=pdf; ComponentLink2Description: Package Specification; ComponentLink2URL: http://www.ti.com/litv/pdf/mpds373
footprint DGS10_N (TSSOP, 10-Leads, Body 3x3mm, Pitch 0.5mm, IPC Medium Density)
footprint DGS10_L (TSSOP, 10-Leads, Body 3x3mm, Pitch 0.5mm, IPC High Density)
footprint DGS10_M (TSSOP, 10-Leads, Body 3x3mm, Pitch 0.5mm, IPC Low Density)
pins: 1 VIN (power) "Supply voltage input", 2 FC "Supply bypass pin. A 0.1 µF coupling capacitor should be connected as close as possible to this pin for good high frequency input voltage supply filtering.", 3 GND (power) "Ground", 4 PG (hiz) "Power good comparator output. This is an open-drain output. A pullup resistor should be connected between PG and VO. The output goes active high when the output voltage is greater than 92% of the nominal value.", 5 FB (in) "Feedback pin for the fixed output voltage option. For the adjustable version an external resistive divider is connected to FB. The internal voltage divider is disabled for the adjustable version.", 6 ILIM (in) "Switch current limit. Connect ILIM to GND to set the switch current limit to typically 600 mA, or connect this pin to VIN to set the current limit to typically 1200 mA.", 7 SYNC (in) "Input for synchronization to external clock signal. Synchronizes the converter switching frequency to an external clock signal with CMOS level:SYNC = HIGH: Low-noise mode enabled, fixed frequency PWM operation is forced SYNC (See Datasheet)", 8 EN (in) "Enable. A logic high enables the converter, logic low forces the device into shutdown mode reducing the supply current to less than 1 uA.", 9 L (power) "Connect the inductor to this pin. L is the switch pin connected to the drain of the internal power MOSFETS.", 10 PGND (power) "Power ground. Connect all power grounds to PGND."

## TPS62006DGSRG4
designator U?
Buck Step-Down Regulator with 2 V to 5.5 V Input and 2.5 V Output, -40 to 85 degC, 10-Pin MSOP (DGS), Green (RoHS & no Sb/Br); Manufacturer: Texas Instruments; PartNumber: TPS62006DGSRG4; Duty Cycle(Max)(%): 100; Iout(Max)(A): 0.6; Iq(Typ)(mA): 0.05; Preset Vout(V): 2.5; Rating: Catalog; Regulated Outputs(#): 1; Switch Current Limit(Typ)(A): 1.6; Synchronous Rectification: TRUE; Vin(Max)(V): 5.5; Vin(Min)(V): 2; DatasheetVersion: SLVS294E; PackageVersion: revC, Feb-2004; PackageReference: DGS10; PackageDescription: 10-Pin Thin Shrink Small Outline Package 0.5 mm Pitch; Supplier 1: Digi-Key; Supplier Part Number 1: TPS62006DGSRG4-ND; Eco-Plan: Green (RoHS & no Sb/Br); SubFamily: Step-Down Regulator; Topology: Buck; Vout(Max)(V): 2.5; Vout(Min)(V): 2.5; Mounting Technology: Surface Mount; Code_JEDEC: MO-187-BA; ComponentLink1Description: Datasheet; ComponentLink1URL: http://www.ti.com/general/docs/lit/getliterature.tsp?genericPartNumber=TPS62006&fileType=pdf; ComponentLink2Description: Package Specification; ComponentLink2URL: http://www.ti.com/litv/pdf/mpds373
footprint DGS10_N (TSSOP, 10-Leads, Body 3x3mm, Pitch 0.5mm, IPC Medium Density)
footprint DGS10_L (TSSOP, 10-Leads, Body 3x3mm, Pitch 0.5mm, IPC High Density)
footprint DGS10_M (TSSOP, 10-Leads, Body 3x3mm, Pitch 0.5mm, IPC Low Density)
pins: 1 VIN (power) "Supply voltage input", 2 FC "Supply bypass pin. A 0.1 µF coupling capacitor should be connected as close as possible to this pin for good high frequency input voltage supply filtering.", 3 GND (power) "Ground", 4 PG (hiz) "Power good comparator output. This is an open-drain output. A pullup resistor should be connected between PG and VO. The output goes active high when the output voltage is greater than 92% of the nominal value.", 5 FB (in) "Feedback pin for the fixed output voltage option. For the adjustable version an external resistive divider is connected to FB. The internal voltage divider is disabled for the adjustable version.", 6 ILIM (in) "Switch current limit. Connect ILIM to GND to set the switch current limit to typically 600 mA, or connect this pin to VIN to set the current limit to typically 1200 mA.", 7 SYNC (in) "Input for synchronization to external clock signal. Synchronizes the converter switching frequency to an external clock signal with CMOS level:SYNC = HIGH: Low-noise mode enabled, fixed frequency PWM operation is forced SYNC (See Datasheet)", 8 EN (in) "Enable. A logic high enables the converter, logic low forces the device into shutdown mode reducing the supply current to less than 1 uA.", 9 L (power) "Connect the inductor to this pin. L is the switch pin connected to the drain of the internal power MOSFETS.", 10 PGND (power) "Power ground. Connect all power grounds to PGND."